# EAGLE library part TMP102 (library TMP102)
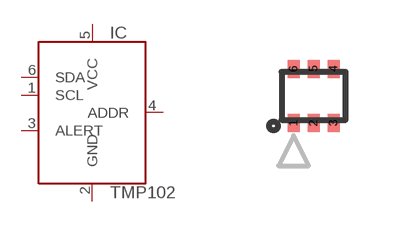
[diagram p0: symbol with the pads of SOT563; footprint SOT563]

Designator prefix IC

## TMP102 (ADDRESS: 0x48; MF: Texas Instruments; MPN: TMP102AIDRLR)  [SOT563]
1  SCL
2  GND  pwr
3  ALERT  oc
4  ADDR  in
5  VCC  pwr
6  SDA

## Footprint SOT563 (pad centres in mm)
smd 0.3 x 0.45: 1 -0.5,-0.68; 2 0,-0.68; 3 0.5,-0.68; 4 0.5,0.68; 5 0,0.68; 6 -0.5,0.68